# Altium schematic symbol library SJ1-42515TS.Schlib: 1 symbol
Pins are listed as number, name and electrical type; pins without a type are passive.

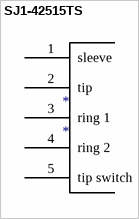
[diagram p0: symbol SJ1-42515TS]

## SJ1-42515TS
designator *
4 connector plus tip audio jack through hole
pins: 1 sleeve, 2 tip, 3 ring 1, 4 ring 2, 5 tip switch